# Altium footprint library 88elpac.PcbLib: 1 footprints
Each footprint in its own frame and in the unit in brackets; x right, y up, seen from the top. Pads: shape width x height; smd on the part's side, far side on the other; paste and mask are expansions set on the pad; w line width, h text height; cw(c..) or ccw(c..) is an arc to the next point about the centre after c.
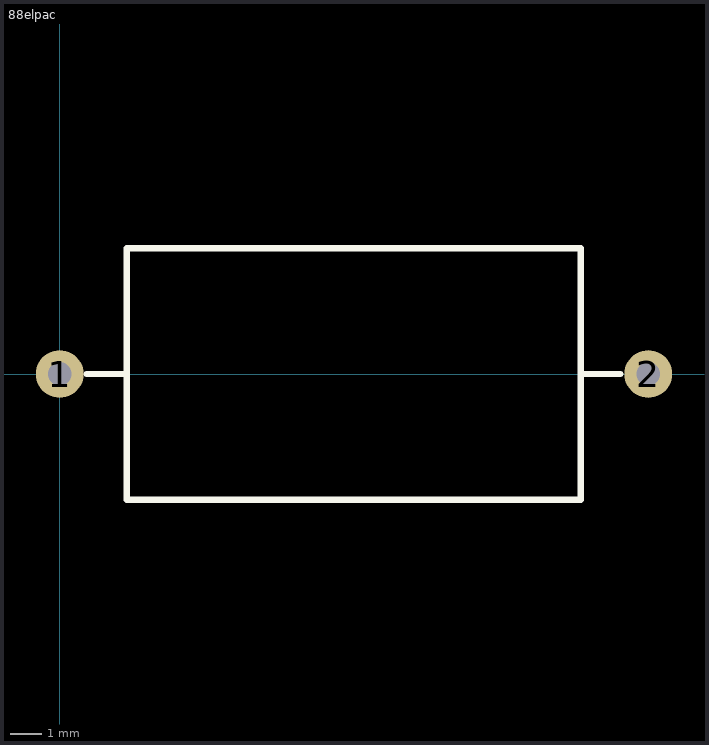
[diagram p0: the footprint, top view; thin cyan lines are the x and y axes]

## 88elpac [mil]
height 325
pads (2):
  round 60 hole 30: 1(0,0) 2(739,0)
TopOverlay:
  lines w8: 34,0 84,0 ; 654,0 704,0 ; 84,-158 84,158 654,158 654,-158 84,-158